# Altium footprint library PCB AMS625.PcbLib: 27 footprints (part 2 of 2)
Each footprint in its own frame and in the unit in brackets; x right, y up, seen from the top. Pads: shape width x height; smd on the part's side, far side on the other; paste and mask are expansions set on the pad; w line width, h text height; cw(c..) or ccw(c..) is an arc to the next point about the centre after c.
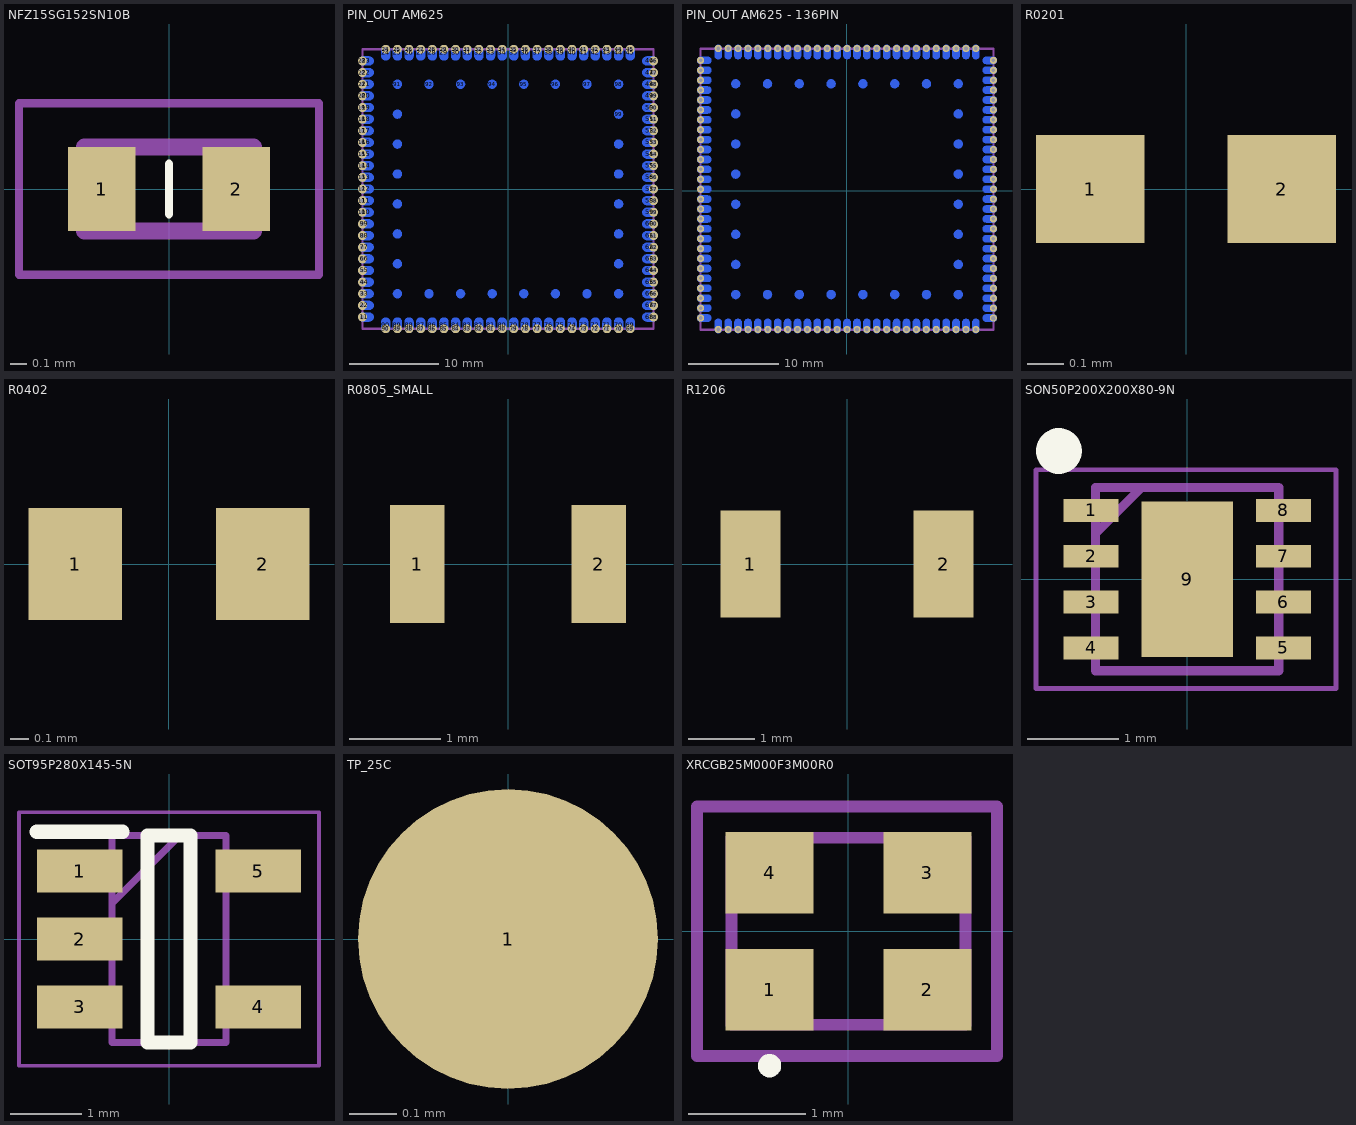
[diagram p1: the footprints below, top view; thin cyan lines are the x and y axes]

## NFZ15SG152SN10B [mm]
pads (2):
  rect 0.4x0.5 smd: 1(-0.4,0) 2(0.4,0)
Top Overlay:
  lines w0.05: 0,-0.15 0,0.15
Mechanical 13:
  lines w0.1: -0.5,-0.25 -0.5,0.25 0.5,0.25 0.5,-0.25 -0.5,-0.25
Mechanical 15:
  lines w0.05: -0.889,-0.508 -0.889,0.508 0.889,0.508 0.889,-0.508 -0.889,-0.508
Mechanical 29:
  text ".Designator" at -7.05,-0.593 h3
3D body "BLM15PX121SN1D.stp": height 0.5, standoff 0, extent -0.5,-0.25 0.5,0.25

## PIN_OUT AM625 [mm]
pads (209):
  round 1 hole 0.5: 1(-16.25,-14.3) 2(-16.25,-13) 3(-16.25,-11.7) 4(-16.25,-10.4) 5(-16.25,-9.1) 6(-16.25,-7.8) 7(-16.25,-6.5) 8(-16.25,-5.2) 9(-16.25,-3.9) 10(-16.25,-2.6) 11(-16.25,-1.3) 12(-16.25,0) 13(-16.25,1.3) 14(-16.25,2.6) 15(-16.25,3.9) 16(-16.25,5.2) 17(-16.25,6.5) 18(-16.25,7.8) 19(-16.25,9.1) 20(-16.25,10.4) 21(-16.25,11.7) 22(-16.25,13) 23(-16.25,14.3) 24(-13.65,15.6) 25(-12.35,15.6) 26(-11.05,15.6) 27(-9.75,15.6) 28(-8.45,15.6) 29(-7.15,15.6) 30(-5.85,15.6) 31(-4.55,15.6) 32(-3.25,15.6) 33(-1.95,15.6) 34(-0.65,15.6) 35(0.65,15.6) 36(1.95,15.6) 37(3.25,15.6) 38(4.55,15.6) 39(5.85,15.6) 40(7.15,15.6) 41(8.45,15.6) 42(9.75,15.6) 43(11.05,15.6) 44(12.35,15.6) 45(13.65,15.6) 46(16.25,14.3) 47(16.25,13) 48(16.25,11.7) 49(16.25,10.4) 50(16.25,9.1) 51(16.25,7.8) 52(16.25,6.5) 53(16.25,5.2) 54(16.25,3.9) 55(16.25,2.6) 56(16.25,1.3) 57(16.25,0) 58(16.25,-1.3) 59(16.25,-2.6) 60(16.25,-3.9) 61(16.25,-5.2) 62(16.25,-6.5) 63(16.25,-7.8) 64(16.25,-9.1) 65(16.25,-10.4) 66(16.25,-11.7) 67(16.25,-13) 68(16.25,-14.3) 69(13.65,-15.6) 70(12.35,-15.6) 71(11.05,-15.6) 72(9.75,-15.6) 73(8.45,-15.6) 74(7.15,-15.6) 75(5.85,-15.6) 76(4.55,-15.6) 77(3.25,-15.6) 78(1.95,-15.6) 79(0.65,-15.6) 80(-0.65,-15.6) 81(-1.95,-15.6) 82(-3.25,-15.6) 83(-4.55,-15.6) 84(-5.85,-15.6) 85(-7.15,-15.6) 86(-8.45,-15.6) 87(-9.75,-15.6) 88(-11.05,-15.6) 89(-12.35,-15.6) 90(-13.65,-15.6)
  oval 1.7x1 smd far side: 1(-15.85,-14.3) 2(-15.85,-13) 3(-15.85,-11.7) 4(-15.85,-10.4) 5(-15.85,-9.1) 6(-15.85,-7.8) 7(-15.85,-6.5) 8(-15.85,-5.2) 9(-15.85,-3.9) 10(-15.85,-2.6) 11(-15.85,-1.3) 12(-15.85,0) 13(-15.85,1.3) 14(-15.85,2.6) 15(-15.85,3.9) 16(-15.85,5.2) 17(-15.85,6.5) 18(-15.85,7.8) 19(-15.85,9.1) 20(-15.85,10.4) 21(-15.85,11.7) 22(-15.85,13) 23(-15.85,14.3) 46(15.85,14.3) 47(15.85,13) 48(15.85,11.7) 49(15.85,10.4) 50(15.85,9.1) 51(15.85,7.8) 52(15.85,6.5) 53(15.85,5.2) 54(15.85,3.9) 55(15.85,2.6) 56(15.85,1.3) 57(15.85,0) 58(15.85,-1.3) 59(15.85,-2.6) 60(15.85,-3.9) 61(15.85,-5.2) 62(15.85,-6.5) 63(15.85,-7.8) 64(15.85,-9.1) 65(15.85,-10.4) 66(15.85,-11.7) 67(15.85,-13) 68(15.85,-14.3)
  oval 1x1.7 smd far side: 24(-13.65,15.2) 25(-12.35,15.2) 26(-11.05,15.2) 27(-9.75,15.2) 28(-8.45,15.2) 29(-7.15,15.2) 30(-5.85,15.2) 31(-4.55,15.2) 32(-3.25,15.2) 33(-1.95,15.2) 34(-0.65,15.2) 35(0.65,15.2) 36(1.95,15.2) 37(3.25,15.2) 38(4.55,15.2) 39(5.85,15.2) 40(7.15,15.2) 41(8.45,15.2) 42(9.75,15.2) 43(11.05,15.2) 44(12.35,15.2) 45(13.65,15.2) 69(13.65,-15.2) 70(12.35,-15.2) 71(11.05,-15.2) 72(9.75,-15.2) 73(8.45,-15.2) 74(7.15,-15.2) 75(5.85,-15.2) 76(4.55,-15.2) 77(3.25,-15.2) 78(1.95,-15.2) 79(0.65,-15.2) 80(-0.65,-15.2) 81(-1.95,-15.2) 82(-3.25,-15.2) 83(-4.55,-15.2) 84(-5.85,-15.2) 85(-7.15,-15.2) 86(-8.45,-15.2) 87(-9.75,-15.2) 88(-11.05,-15.2) 89(-12.35,-15.2) 90(-13.65,-15.2)
  round 1 smd far side: 91(-12.35,11.7) 92(-8.821,11.7) 93(-5.292,11.7) 94(-1.763,11.7) 95(1.766,11.7) 96(5.295,11.7) 97(8.824,11.7) 98(12.353,11.7) 99(12.353,8.358) 100(12.353,5.016) 101(12.353,1.674) 102(12.353,-1.668) 103(12.353,-5.01) 104(12.353,-8.352) 105(12.353,-11.694) 106(8.824,-11.694) 107(5.295,-11.694) 108(1.766,-11.694) 109(-1.763,-11.694) 110(-5.292,-11.694) 111(-8.821,-11.694) 112(-12.35,-11.694) 112(-12.35,-11.694) 113(-12.35,-8.352) 114(-12.35,-5.01) 115(-12.35,-1.668) 116(-12.35,1.674) 117(-12.35,5.016) 118(-12.35,8.358)
Mechanical 13:
  lines w0.254: -16.25,-15.6 16.25,-15.6 16.25,15.6 -16.25,15.6 -16.25,-15.6

## PIN_OUT AM625 - 136PIN [mm]
pads (271):
  round 0.8 hole 0.4: 1(-16.25,-14.121) 1(-16.25,-14.121) 2(-16.25,-13.021) 2(-16.25,-13.021) 3(-16.25,-11.921) 3(-16.25,-11.921) 4(-16.25,-10.821) 4(-16.25,-10.821) 5(-16.25,-9.721) 5(-16.25,-9.721) 6(-16.25,-8.621) 6(-16.25,-8.621) 7(-16.25,-7.521) 7(-16.25,-7.521) 8(-16.25,-6.421) 8(-16.25,-6.421) 9(-16.25,-5.321) 9(-16.25,-5.321) 10(-16.25,-4.221) 10(-16.25,-4.221) 11(-16.25,-3.121) 11(-16.25,-3.121) 12(-16.25,-2.021) 12(-16.25,-2.021) 13(-16.25,-0.921) 13(-16.25,-0.921) 14(-16.25,0.179) 14(-16.25,0.179) 15(-16.25,1.279) 15(-16.25,1.279) 16(-16.25,2.379) 16(-16.25,2.379) 17(-16.25,3.479) 17(-16.25,3.479) 18(-16.25,4.579) 18(-16.25,4.579) 19(-16.25,5.679) 19(-16.25,5.679) 20(-16.25,6.779) 20(-16.25,6.779) 21(-16.25,7.879) 21(-16.25,7.879) 22(-16.25,8.979) 22(-16.25,8.979) 23(-16.25,10.079) 23(-16.25,10.079) 24(-16.25,11.179) 24(-16.25,11.179) 25(-16.25,12.279) 25(-16.25,12.279) 26(-16.25,13.379) 26(-16.25,13.379) 27(-16.25,14.479) 27(-16.25,14.479) 28(-14.294,15.8) 29(-13.194,15.8) 30(-12.094,15.8) 31(-10.994,15.8) 32(-9.894,15.8) 33(-8.794,15.8) 34(-7.694,15.8) 35(-6.594,15.8) 36(-5.494,15.8) 37(-4.394,15.8) 38(-3.294,15.8) 39(-2.194,15.8) 40(-1.094,15.8) 41(0.006,15.8) 42(1.106,15.8) 43(2.206,15.8) 44(3.306,15.8) 45(4.406,15.8) 46(5.506,15.8) 47(6.606,15.8) 48(7.706,15.8) 49(8.806,15.8) 50(9.906,15.8) 51(11.006,15.8) 52(12.106,15.8) 53(13.206,15.8) 54(14.306,15.8) 55(16.25,14.479) 56(16.25,13.379) 57(16.25,12.279) 58(16.25,11.179) 59(16.25,10.079) 60(16.25,8.979) 61(16.25,7.879) 62(16.25,6.779) 63(16.25,5.679) 64(16.25,4.579) 65(16.25,3.479) 66(16.25,2.379) 67(16.25,1.279) 68(16.25,0.179) 69(16.25,-0.921) 70(16.25,-2.021) 71(16.25,-3.121) 72(16.25,-4.221) 73(16.25,-5.321) 74(16.25,-6.421) 75(16.25,-7.521) 76(16.25,-8.621) 77(16.25,-9.721) 78(16.25,-10.821) 79(16.25,-11.921) 80(16.25,-13.021) 82(14.306,-15.4) 83(13.206,-15.4) 84(12.106,-15.4) 85(11.006,-15.4) 86(9.906,-15.4) 87(8.806,-15.4) 88(7.706,-15.4) 89(6.606,-15.4) 90(5.506,-15.4) 91(4.406,-15.4) 92(3.306,-15.4) 93(2.206,-15.4) 94(1.106,-15.4) 95(0.006,-15.4) 96(-1.094,-15.4) 97(-2.194,-15.4) 98(-3.294,-15.4) 99(-4.394,-15.4) 100(-5.494,-15.4) 101(-6.594,-15.4) 102(-7.694,-15.4) 103(-8.794,-15.4) 104(-9.894,-15.4) 105(-10.994,-15.4) 106(-12.094,-15.4) 107(-13.194,-15.4) 108(-14.294,-15.4)
  oval 1.6x0.8 smd far side: 1(-15.85,-14.121) 2(-15.85,-13.021) 3(-15.85,-11.921) 4(-15.85,-10.821) 5(-15.85,-9.721) 6(-15.85,-8.621) 7(-15.85,-7.521) 8(-15.85,-6.421) 9(-15.85,-5.321) 10(-15.85,-4.221) 11(-15.85,-3.121) 12(-15.85,-2.021) 13(-15.85,-0.921) 14(-15.85,0.179) 15(-15.85,1.279) 16(-15.85,2.379) 17(-15.85,3.479) 18(-15.85,4.579) 19(-15.85,5.679) 20(-15.85,6.779) 21(-15.85,7.879) 22(-15.85,8.979) 23(-15.85,10.079) 24(-15.85,11.179) 25(-15.85,12.279) 26(-15.85,13.379) 27(-15.85,14.479) 55(15.85,14.475) 56(15.85,13.379) 57(15.85,12.279) 58(15.85,11.179) 59(15.85,10.079) 60(15.85,8.979) 61(15.85,7.879) 62(15.85,6.779) 63(15.85,5.679) 64(15.85,4.579) 65(15.85,3.479) 66(15.85,2.379) 67(15.85,1.279) 68(15.85,0.179) 69(15.85,-0.921) 70(15.85,-2.021) 71(15.85,-3.121) 72(15.85,-4.221) 73(15.85,-5.321) 74(15.85,-6.421) 75(15.85,-7.521) 76(15.85,-8.621) 77(15.85,-9.721) 78(15.85,-10.821) 79(15.85,-11.921) 80(15.85,-13.021) 81(15.85,-14.121)
  oval 0.8x1.6 smd far side: 28(-14.294,15.4) 29(-13.194,15.4) 30(-12.094,15.4) 31(-10.994,15.4) 32(-9.894,15.4) 33(-8.794,15.4) 34(-7.694,15.4) 35(-6.594,15.4) 36(-5.494,15.4) 37(-4.394,15.4) 38(-3.294,15.4) 39(-2.194,15.4) 40(-1.094,15.4) 41(0.006,15.4) 42(1.106,15.4) 43(2.206,15.4) 44(3.306,15.4) 45(4.406,15.4) 46(5.506,15.4) 47(6.606,15.4) 48(7.706,15.4) 49(8.806,15.4) 50(9.906,15.4) 51(11.006,15.4) 52(12.106,15.4) 53(13.206,15.4) 54(14.306,15.4) 82(14.306,-15) 83(13.206,-15) 84(12.106,-15) 85(11.006,-15) 86(9.906,-15) 87(8.806,-15) 88(7.706,-15) 89(6.606,-15) 90(5.506,-15) 91(4.406,-15) 92(3.306,-15) 93(2.206,-15) 94(1.106,-15) 95(0.006,-15) 96(-1.094,-15) 97(-2.194,-15) 98(-3.294,-15) 99(-4.394,-15) 100(-5.494,-15) 101(-6.594,-15) 102(-7.694,-15) 103(-8.794,-15) 104(-9.894,-15) 105(-10.994,-15) 106(-12.094,-15) 107(-13.194,-15) 108(-14.294,-15)
  round 0.8 hole 0.5: 81(16.25,-14.121)
  round 1 smd far side: 109(-12.35,11.879) 110(-8.821,11.879) 111(-5.292,11.879) 112(-1.763,11.879) 113(1.766,11.879) 114(5.295,11.879) 115(8.824,11.879) 116(12.353,11.879) 117(12.353,8.537) 118(12.353,5.195) 119(12.353,1.853) 120(12.353,-1.489) 121(12.353,-4.831) 122(12.353,-8.173) 123(12.353,-11.515) 124(8.824,-11.515) 125(5.295,-11.515) 126(1.766,-11.515) 127(-1.763,-11.515) 128(-5.292,-11.515) 129(-8.821,-11.515) 130(-12.35,-11.515) 131(-12.35,-8.173) 132(-12.35,-4.831) 133(-12.35,-1.489) 134(-12.35,1.853) 135(-12.35,5.195) 136(-12.35,8.537)
Mechanical 13:
  lines w0.254: -16.25,-15.421 -16.25,15.779 16.25,15.779 16.25,-15.421 -16.25,-15.421

## R0201 [mm] "Creator MM"
pads (2):
  rect 0.3x0.3 smd mask+0.04: 1(-0.265,0) 2(0.265,0)
Mechanical 29:
  text ".Designator" at -2.331,-0.25 h1
3D body "R0201.step": height 0.32, standoff -0.01, extent -0.3,-0.15 0.3,0.15

## R0402 [mm]
pads (2):
  rect 0.5x0.6 smd: 1(-0.5,0) 2(0.5,0)
Mechanical 29:
  text ".Designator" at -2.29,-0.21 h1
3D body "R0402.step": height 0.4, standoff 0, extent -0.5,-0.25 0.5,0.25

## R0805_SMALL [mm]
pads (2):
  rect 0.6x1.3 smd paste-0.3 mask-0.3: 1(-1,0) 2(1,0)
Top Paste:
  rectangle: -1.3,-0.65 -0.7,-0.35
  rectangle: -1.3,0 -0.7,0.65
  region: 1.3,0.65 0.7,0.65 0.7,0 1.3,0
  region: 1.3,-0.35 0.7,-0.35 0.7,-0.65 1.3,-0.65
Top Solder:
  rectangle: -1.4,-0.1 -0.6,0.75
  rectangle: -1.4,-0.75 -0.6,-0.25
  region: 1.4,-0.25 0.6,-0.25 0.6,-0.75 1.4,-0.75
  region: 1.4,0.75 0.6,0.75 0.6,-0.1 1.4,-0.1
Mechanical 29:
  text ".Designator" at -2.39,-0.24 h1
3D body "R0805.step": height 0.7, standoff 0, extent -1,-0.6 1,0.6

## R1206 [mm]
pads (2):
  rect 0.9x1.6 smd: 1(-1.45,0) 2(1.45,0)
Mechanical 29:
  text ".Designator" at -2.28,-0.25 h1
3D body "R1206.step": height 0.84, standoff 0, extent -1.6,-0.8 1.6,0.8

## SON50P200X200X80-9N [mm]
pads (9):
  rect 0.6x0.25 smd: 1(-1.05,0.75) 2(-1.05,0.25) 3(-1.05,-0.25) 4(-1.05,-0.75) 5(1.05,-0.75) 6(1.05,-0.25) 7(1.05,0.25) 8(1.05,0.75)
  rect 1x1.7 smd: 9(0,0)
Top Overlay:
  circle w0.25: c-1.4,1.4 r0.125
Mechanical 13:
  lines w0.1: -1,0.5 -0.5,1 ; -1,-1 -1,1 1,1 1,-1 -1,-1
Mechanical 15:
  lines w0.05: -1.651,-1.194 -1.651,1.194 1.625,1.194 1.625,-1.194 -1.651,-1.194
Mechanical 29:
  text ".Designator" at -3.556,-0.381 h1.52
3D body "TPS22965DSGT.stp": height 0.77, standoff 0, extent -1,-1 1,1

## SOT95P280X145-5N [mm]
pads (5):
  rect 1.2x0.6 smd: 1(-1.25,0.95) 2(-1.25,0) 3(-1.25,-0.95) 4(1.25,-0.95) 5(1.25,0.95)
Top Overlay:
  lines w0.2: -1.85,1.5 -0.65,1.5 ; -0.3,-1.45 0.3,-1.45 0.3,1.45 -0.3,1.45 -0.3,-1.45
Mechanical 13:
  lines w0.1: -0.8,0.5 0.15,1.45 ; -0.8,-1.45 0.8,-1.45 0.8,1.45 -0.8,1.45 -0.8,-1.45
Mechanical 15:
  lines w0.05: -2.1,-1.775 2.1,-1.775 2.1,1.775 -2.1,1.775 -2.1,-1.775
Mechanical 29:
  text ".Designator" at -3.556,-0.381 h1.52
3D body "TLV75518PDBVR.stp": height 1.2, standoff 0, extent -1.4,-1.45 1.4,1.45

## TP_25C [mm]
pads (1):
  round 0.635 smd paste-0.635 mask+0.051: 1(0,0)

## XRCGB25M000F3M00R0 [mm]
pads (4):
  rect 0.75x0.7 smd: 1(-0.675,-0.5) 2(0.675,-0.5) 3(0.675,0.5) 4(-0.675,0.5)
Top Overlay:
  lines w0.1: -0.675,-1.2 ccw(c-0.675,-1.15) -0.675,-1.1 ccw(c-0.675,-1.15) -0.675,-1.2
Mechanical 13:
  lines w0.1: -1,-0.8 -1,0.8 1,0.8 1,-0.8 -1,-0.8
Mechanical 15:
  lines w0.1: -1.295,-1.067 -1.295,1.067 1.27,1.067 1.27,-1.067 -1.295,-1.067
Mechanical 29:
  text ".Designator" at -3.556,-0.381 h1.52
3D body "XRCGB25M000F3M00R0.stp": height 0.8, standoff 0, extent -1,-0.8 1,0.8